# EAGLE library part 64GRID (library Pressure_Pad)
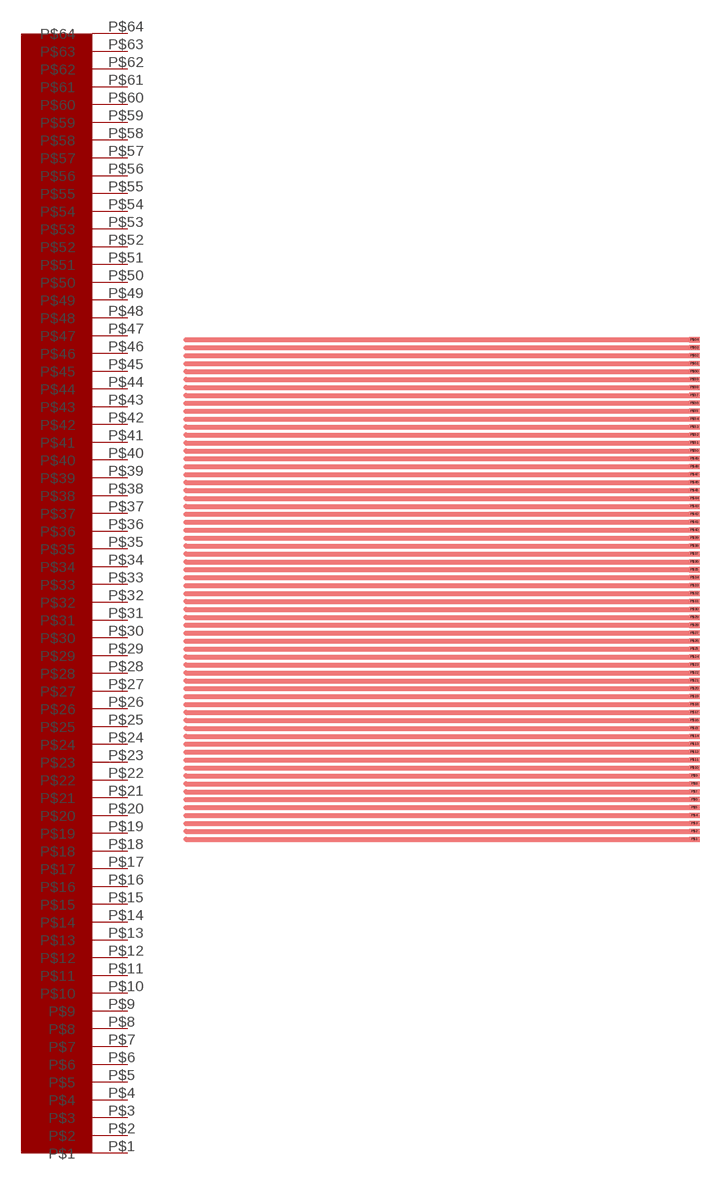
[diagram p0: symbol with the pads of 64GRID; footprint 64GRID]

Designator prefix -

## 64GRID  [64GRID]
P$1  P$1
P$2  P$2
P$3  P$3
P$4  P$4
P$5  P$5
P$6  P$6
P$7  P$7
P$8  P$8
P$9  P$9
P$10  P$10
P$11  P$11
P$12  P$12
P$13  P$13
P$14  P$14
P$15  P$15
P$16  P$16
P$17  P$17
P$18  P$18
P$19  P$19
P$20  P$20
P$21  P$21
P$22  P$22
P$23  P$23
P$24  P$24
P$25  P$25
P$26  P$26
P$27  P$27
P$28  P$28
P$29  P$29
P$30  P$30
P$31  P$31
P$32  P$32
P$33  P$33
P$34  P$34
P$35  P$35
P$36  P$36
P$37  P$37
P$38  P$38
P$39  P$39
P$40  P$40
P$41  P$41
P$42  P$42
P$43  P$43
P$44  P$44
P$45  P$45
P$46  P$46
P$47  P$47
P$48  P$48
P$49  P$49
P$50  P$50
P$51  P$51
P$52  P$52
P$53  P$53
P$54  P$54
P$55  P$55
P$56  P$56
P$57  P$57
P$58  P$58
P$59  P$59
P$60  P$60
P$61  P$61
P$62  P$62
P$63  P$63
P$64  P$64

## Footprint 64GRID (pad centres in mm)
smd 5.08 x 2.54: P$1 258,0; P$2 258,4; P$3 258,8; P$4 258,12; P$5 258,16; P$6 258,20; P$7 258,24; P$8 258,28; P$9 258,32; P$10 258,36; P$11 258,40; P$12 258,44; P$13 258,48; P$14 258,52; P$15 258,56; P$16 258,60; P$17 258,64; P$18 258,68; P$19 258,72; P$20 258,76; P$21 258,80; P$22 258,84; P$23 258,88; P$24 258,92; P$25 258,96; P$26 258,100; P$27 258,104; P$28 258,108; P$29 258,112; P$30 258,116; P$31 258,120; P$32 258,124; P$33 258,128; P$34 258,132; P$35 258,136; P$36 258,140; P$37 258,144; P$38 258,148; P$39 258,152; P$40 258,156; P$41 258,160; P$42 258,164; P$43 258,168; P$44 258,172; P$45 258,176; P$46 258,180; P$47 258,184; P$48 258,188; P$49 258,192; P$50 258,196; P$51 258,200; P$52 258,204; P$53 258,208; P$54 258,212; P$55 258,216; P$56 258,220; P$57 258,224; P$58 258,228; P$59 258,232; P$60 258,236; P$61 258,240; P$62 258,244; P$63 258,248; P$64 258,252